# Altium schematic symbol library SLIDE_SWITCH.SchLib: 1 symbol
Pins are listed as number, name and electrical type; pins without a type are passive.

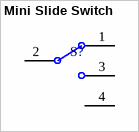
[diagram p0: symbol Mini Slide Switch]

## Mini Slide Switch
designator S?
7 Pin Mini Slide Switch On-OFF 2Position Micro Slide Toggle Switch 1P2T H=1.5MM Miniature Horizontal Slide Switch SMD; Part Number: 450405020524; Rated Current: 300mA; Rated Voltage: 5VDC; Switching Function: On-On; Circuit: SPDT; Packaging: Tape and Reel; Publisher: Wurth Elektronik; Contact Material: Copper Alloy; Mounting Technology: SMT; Operating Temperature: -40 to +85degC; Contact Plating: Silver; Published Date: November 2019; Terminal Material: Copper Alloy; Size: 8.7x3mm; Terminal Plating: Silver
footprint MINI SLIDE SWITCH (Miniature Horizontal Slide Switch SMD)
pins: 1, 2 COM, 3, 4 NC "Case pads"